# EAGLE library part MCP7940N (library NixieDisplay)
RTC with I2C
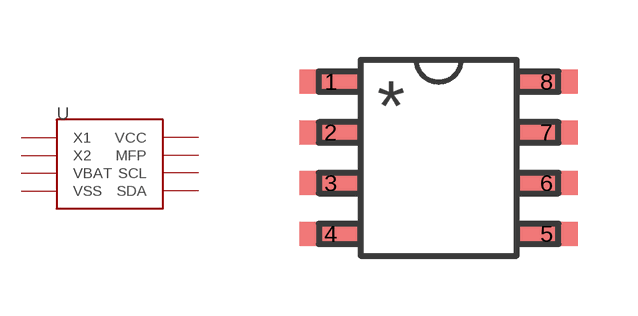
[diagram p13: symbol with the pads of SO-8N; footprint SO-8N]

Designator prefix -

## MCP7940N  [SO-8N]
1  X1
2  X2
3  VBAT
4  VSS
5  SDA
6  SCL
7  MFP
8  VCC

## Footprint SO-8N (pad centres in mm)
smd 1.55 x 0.6: 1 -2.7,1.905; 2 -2.7,0.635; 3 -2.7,-0.635; 4 -2.7,-1.905; 5 2.7,-1.905; 6 2.7,-0.635; 7 2.7,0.635; 8 2.7,1.905